# Altium footprint library TelemetryV3.PcbLib: 4 footprints
Each footprint in its own frame and in the unit in brackets; x right, y up, seen from the top. Pads: shape width x height; smd on the part's side, far side on the other; paste and mask are expansions set on the pad; w line width, h text height; cw(c..) or ccw(c..) is an arc to the next point about the centre after c.
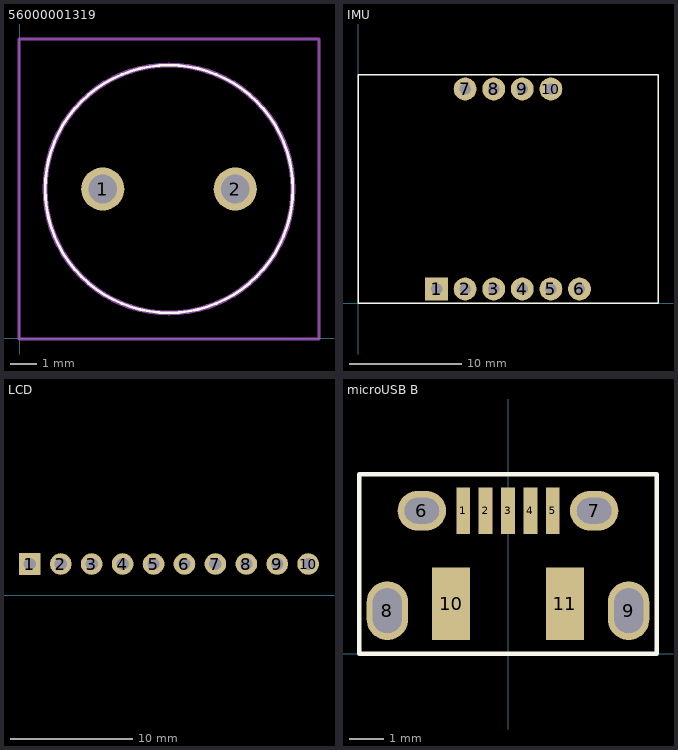
[diagram p0: the footprints below, top view; thin cyan lines are the x and y axes]

## 56000001319 [mm]
pads (2):
  round 1.65 hole 1.1: 1(3.175,5.715) 2(8.255,5.715)
Top Overlay:
  lines w0.1: 0.965,5.715 cw(c5.715,5.715) 10.465,5.715 cw(c5.715,5.715) 0.965,5.715
Mechanical 13:
  lines w0.2: 0.965,5.715 cw(c5.715,5.715) 10.465,5.715 cw(c5.715,5.715) 0.965,5.715
Mechanical 15:
  lines w0.1: -0.035,-0.035 -0.035,11.465 11.465,11.465 11.465,-0.035 -0.035,-0.035

## IMU [mil]
pads (10):
  rect 80x80 hole 40: 1(275,50)
  round 80 hole 40: 2(375,50) 3(475,50) 4(575,50) 5(675,50) 6(775,50) 7(375,750) 8(475,750) 9(575,750) 10(675,750)
Top Overlay:
  lines w5: 0,0 1050,0 1050,800 0,800 0,0

## LCD [mil]
pads (10):
  rect 70x70 hole 40: 1(350,100.79)
  round 70 hole 40: 2(450,100.79) 3(550,100.79) 4(650,100.79) 5(750,100.79) 6(850,100.79) 7(950,100.79) 8(1050,100.79) 9(1150,100.79) 10(1250,100.79)

## microUSB B [mm]
pads (11):
  rect 0.4x1.35 all layers, no hole: 1(-1.3,4.15) 2(-0.65,4.15) 3(0,4.15) 4(0.65,4.15) 5(1.3,4.15)
  oval 1.4x1.15 hole 0.75 slot 1 at 0 deg unplated: 6(-2.5,4.15) 7(2.5,4.15)
  oval 1.2x1.7 hole 1.3 slot 0.85 at 0 deg unplated: 8(-3.5,1.25) 9(3.5,1.25)
  rect 1.1x2.1 all layers, no hole: 10(-1.65,1.45) 11(1.65,1.45)
Top Overlay:
  lines w0.127: -4.318,0 -4.318,5.207 4.318,5.207 4.318,0 0,0 -4.318,0